# EAGLE library part MK66FN2M0VLQ18 (library MK66)
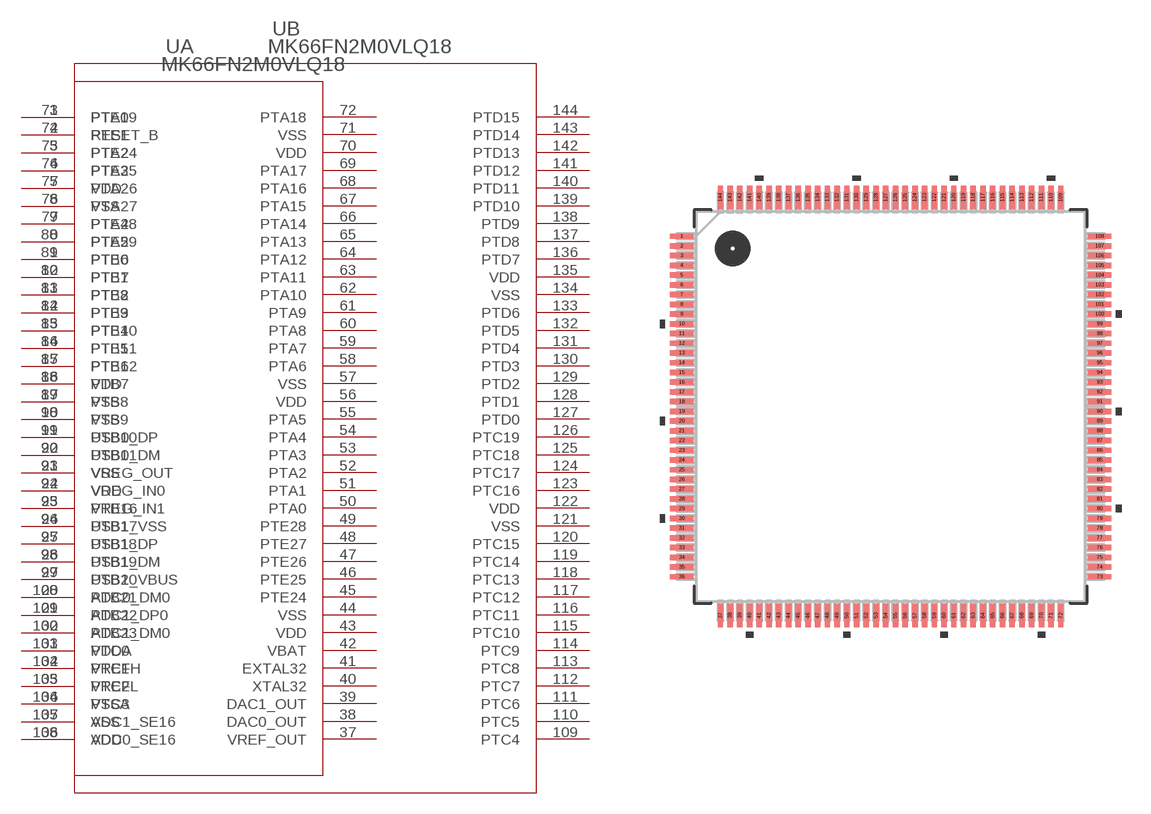
[diagram p0: symbol with the pads of 98ASS23177W; footprint 98ASS23177W]

Designator prefix U; gates A=MK66FN2M0VLQ18_A B=MK66FN2M0VLQ18_B

## MK66FN2M0VLQ18 (MANUFACTURER_PART_NUMBER: mk66fn2m0vlq18; VENDOR: Freescale)  [98ASS23177W]
1  A:PTE0  pas
2  A:PTE1  pas
3  A:PTE2  pas
4  A:PTE3  pas
5  A:VDD  pwr
6  A:VSS  pwr
7  A:PTE4  pas
8  A:PTE5  pas
9  A:PTE6  pas
10  A:PTE7  pas
11  A:PTE8  pas
12  A:PTE9  pas
13  A:PTE10  pas
14  A:PTE11  pas
15  A:PTE12  pas
16  A:VDD  pwr
17  A:VSS  pwr
18  A:VSS  pwr
19  A:USB0_DP  pas
20  A:USB0_DM  pas
21  A:VREG_OUT  out
22  A:VREG_IN0  in
23  A:VREG_IN1  in
24  A:USB1_VSS  pwr
25  A:USB1_DP  pas
26  A:USB1_DM  pas
27  A:USB1_VBUS  pas
28  A:ADC0_DM0  pas
29  A:ADC1_DP0  pas
30  A:ADC1_DM0  pas
31  A:VDDA  pwr
32  A:VREFH  pwr
33  A:VREFL  pwr
34  A:VSSA  pwr
35  A:ADC1_SE16  pas
36  A:ADC0_SE16  pas
37  A:VREF_OUT  pas
38  A:DAC0_OUT  pas
39  A:DAC1_OUT  pas
40  A:XTAL32  pas
41  A:EXTAL32  pas
42  A:VBAT  pwr
43  A:VDD  pwr
44  A:VSS  pwr
45  A:PTE24  pas
46  A:PTE25  pas
47  A:PTE26  pas
48  A:PTE27  pas
49  A:PTE28  pas
50  A:PTA0  pas
51  A:PTA1  pas
52  A:PTA2  pas
53  A:PTA3  pas
54  A:PTA4  pas
55  A:PTA5  pas
56  A:VDD  pwr
57  A:VSS  pwr
58  A:PTA6  pas
59  A:PTA7  pas
60  A:PTA8  pas
61  A:PTA9  pas
62  A:PTA10  pas
63  A:PTA11  pas
64  A:PTA12  pas
65  A:PTA13  pas
66  A:PTA14  pas
67  A:PTA15  pas
68  A:PTA16  pas
69  A:PTA17  pas
70  A:VDD  pwr
71  A:VSS  pwr
72  A:PTA18  pas
73  B:PTA19  pas
74  B:RESET_B  pas
75  B:PTA24  pas
76  B:PTA25  pas
77  B:PTA26  pas
78  B:PTA27  pas
79  B:PTA28  pas
80  B:PTA29  pas
81  B:PTB0  pas
82  B:PTB1  pas
83  B:PTB2  pas
84  B:PTB3  pas
85  B:PTB4  pas
86  B:PTB5  pas
87  B:PTB6  pas
88  B:PTB7  pas
89  B:PTB8  pas
90  B:PTB9  pas
91  B:PTB10  pas
92  B:PTB11  pas
93  B:VSS  pwr
94  B:VDD  pwr
95  B:PTB16  pas
96  B:PTB17  pas
97  B:PTB18  pas
98  B:PTB19  pas
99  B:PTB20  pas
100  B:PTB21  pas
101  B:PTB22  pas
102  B:PTB23  pas
103  B:PTC0  pas
104  B:PTC1  pas
105  B:PTC2  pas
106  B:PTC3  pas
107  B:VSS  pwr
108  B:VDD  pwr
109  B:PTC4  pas
110  B:PTC5  pas
111  B:PTC6  pas
112  B:PTC7  pas
113  B:PTC8  pas
114  B:PTC9  pas
115  B:PTC10  pas
116  B:PTC11  pas
117  B:PTC12  pas
118  B:PTC13  pas
119  B:PTC14  pas
120  B:PTC15  pas
121  B:VSS  pwr
122  B:VDD  pwr
123  B:PTC16  pas
124  B:PTC17  pas
125  B:PTC18  pas
126  B:PTC19  pas
127  B:PTD0  pas
128  B:PTD1  pas
129  B:PTD2  pas
130  B:PTD3  pas
131  B:PTD4  pas
132  B:PTD5  pas
133  B:PTD6  pas
134  B:VSS  pwr
135  B:VDD  pwr
136  B:PTD7  pas
137  B:PTD8  pas
138  B:PTD9  pas
139  B:PTD10  pas
140  B:PTD11  pas
141  B:PTD12  pas
142  B:PTD13  pas
143  B:PTD14  pas
144  B:PTD15  pas

## Footprint 98ASS23177W (pad centres in mm)
smd 1.219 x 0.279: 1 -10.744,8.75; 2 -10.744,8.25; 3 -10.744,7.75; 4 -10.744,7.25; 5 -10.744,6.75; 6 -10.744,6.25; 7 -10.744,5.75; 8 -10.744,5.25; 9 -10.744,4.75; 10 -10.744,4.25; 11 -10.744,3.75; 12 -10.744,3.25; 13 -10.744,2.75; 14 -10.744,2.25; 15 -10.744,1.75; 16 -10.744,1.25; 17 -10.744,0.75; 18 -10.744,0.25; 19 -10.744,-0.25; 20 -10.744,-0.75; 21 -10.744,-1.25; 22 -10.744,-1.75; 23 -10.744,-2.25; 24 -10.744,-2.75; 25 -10.744,-3.25; 26 -10.744,-3.75; 27 -10.744,-4.25; 28 -10.744,-4.75; 29 -10.744,-5.25; 30 -10.744,-5.75; 31 -10.744,-6.25; 32 -10.744,-6.75; 33 -10.744,-7.25; 34 -10.744,-7.75; 35 -10.744,-8.25; 36 -10.744,-8.75; 73 10.744,-8.75; 74 10.744,-8.25; 75 10.744,-7.75; 76 10.744,-7.25; 77 10.744,-6.75; 78 10.744,-6.25; 79 10.744,-5.75; 80 10.744,-5.25; 81 10.744,-4.75; 82 10.744,-4.25; 83 10.744,-3.75; 84 10.744,-3.25; 85 10.744,-2.75; 86 10.744,-2.25; 87 10.744,-1.75; 88 10.744,-1.25; 89 10.744,-0.75; 90 10.744,-0.25; 91 10.744,0.25; 92 10.744,0.75; 93 10.744,1.25; 94 10.744,1.75; 95 10.744,2.25; 96 10.744,2.75; 97 10.744,3.25; 98 10.744,3.75; 99 10.744,4.25; 100 10.744,4.75; 101 10.744,5.25; 102 10.744,5.75; 103 10.744,6.25; 104 10.744,6.75; 105 10.744,7.25; 106 10.744,7.75; 107 10.744,8.25; 108 10.744,8.75
smd 0.279 x 1.219: 37 -8.75,-10.744; 38 -8.25,-10.744; 39 -7.75,-10.744; 40 -7.25,-10.744; 41 -6.75,-10.744; 42 -6.25,-10.744; 43 -5.75,-10.744; 44 -5.25,-10.744; 45 -4.75,-10.744; 46 -4.25,-10.744; 47 -3.75,-10.744; 48 -3.25,-10.744; 49 -2.75,-10.744; 50 -2.25,-10.744; 51 -1.75,-10.744; 52 -1.25,-10.744; 53 -0.75,-10.744; 54 -0.25,-10.744; 55 0.25,-10.744; 56 0.75,-10.744; 57 1.25,-10.744; 58 1.75,-10.744; 59 2.25,-10.744; 60 2.75,-10.744; 61 3.25,-10.744; 62 3.75,-10.744; 63 4.25,-10.744; 64 4.75,-10.744; 65 5.25,-10.744; 66 5.75,-10.744; 67 6.25,-10.744; 68 6.75,-10.744; 69 7.25,-10.744; 70 7.75,-10.744; 71 8.25,-10.744; 72 8.75,-10.744; 109 8.75,10.744; 110 8.25,10.744; 111 7.75,10.744; 112 7.25,10.744; 113 6.75,10.744; 114 6.25,10.744; 115 5.75,10.744; 116 5.25,10.744; 117 4.75,10.744; 118 4.25,10.744; 119 3.75,10.744; 120 3.25,10.744; 121 2.75,10.744; 122 2.25,10.744; 123 1.75,10.744; 124 1.25,10.744; 125 0.75,10.744; 126 0.25,10.744; 127 -0.25,10.744; 128 -0.75,10.744; 129 -1.25,10.744; 130 -1.75,10.744; 131 -2.25,10.744; 132 -2.75,10.744; 133 -3.25,10.744; 134 -3.75,10.744; 135 -4.25,10.744; 136 -4.75,10.744; 137 -5.25,10.744; 138 -5.75,10.744; 139 -6.25,10.744; 140 -6.75,10.744; 141 -7.25,10.744; 142 -7.75,10.744; 143 -8.25,10.744; 144 -8.75,10.744